# Altium schematic symbol library isa_svga.SchLib: 13 symbols
Pins are listed as number, name and electrical type; pins without a type are passive.

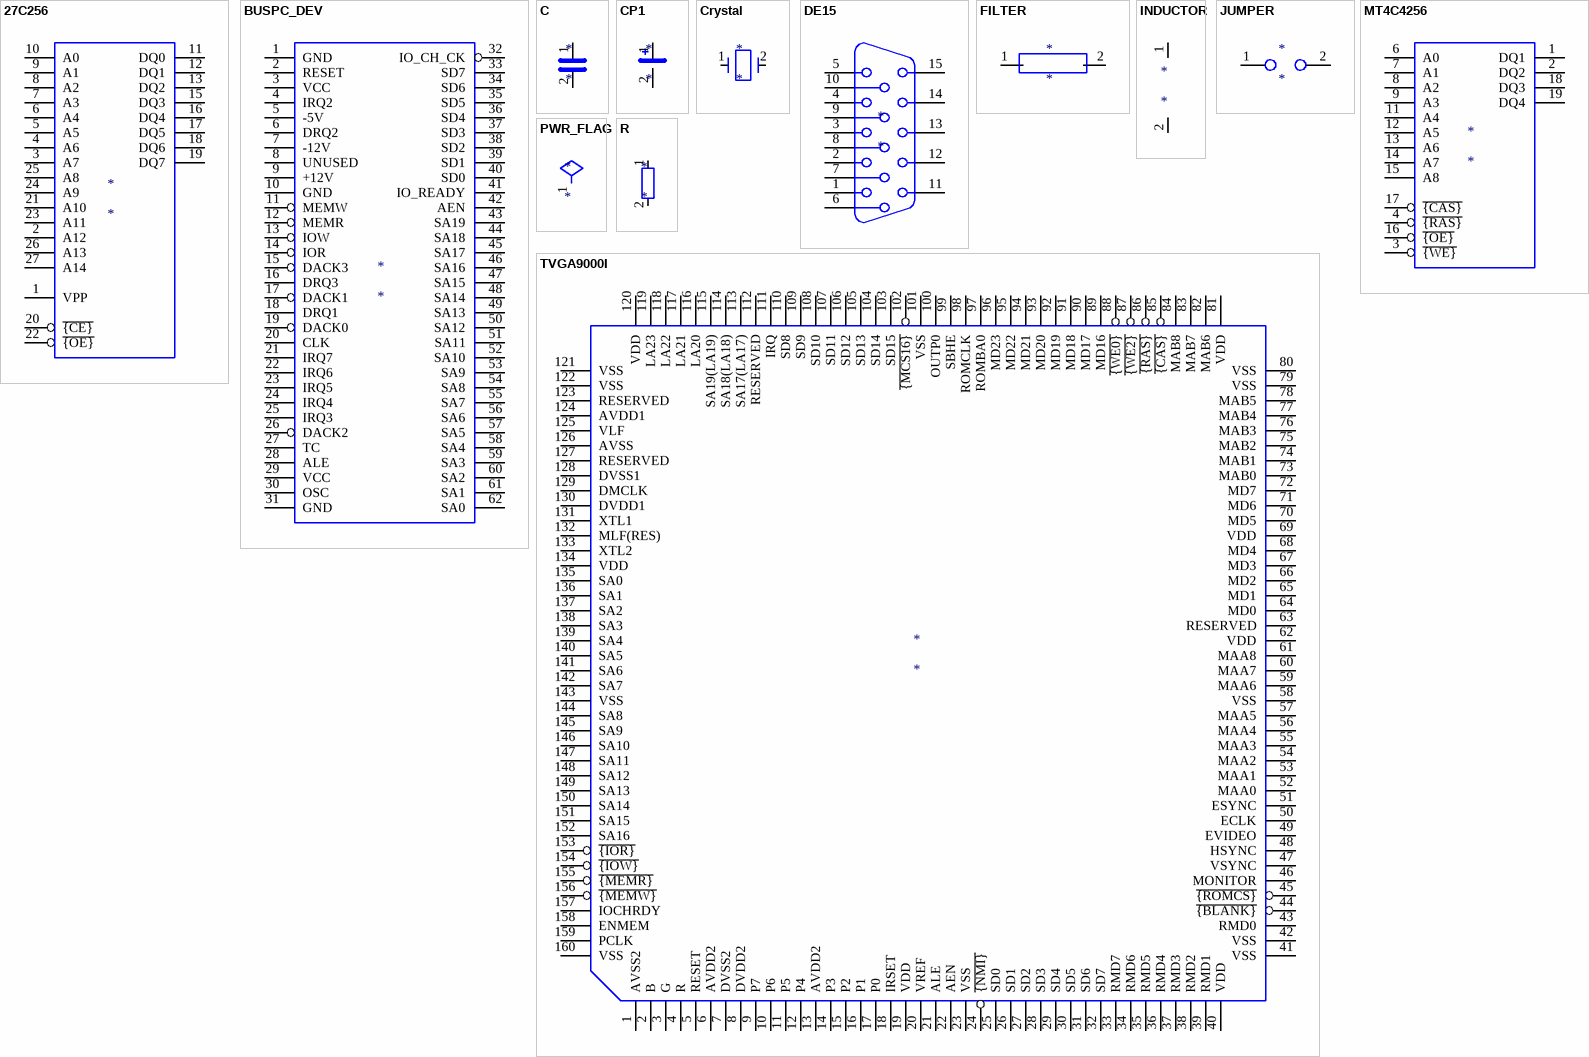
[diagram p0: symbols 27C256 to TVGA9000I]

## 27C256
designator *
pins: 1 VPP, 2 A12, 3 A7, 4 A6, 5 A5, 6 A4, 7 A3, 8 A2, 9 A1, 10 A0, 11 DQ0, 12 DQ1, 13 DQ2, 14 GND hidden, 15 DQ3, 16 DQ4, 17 DQ5, 18 DQ6, 19 DQ7, 20 ~{{CE}}, 21 A10, 22 ~{{OE}}, 23 A11, 24 A9, 25 A8, 26 A13, 27 A14, 28 VCC hidden

## BUSPC_DEV
designator *
pins: 1 GND, 2 RESET, 3 VCC, 4 IRQ2, 5 -5V, 6 DRQ2, 7 -12V, 8 UNUSED, 9 +12V, 10 GND, 11 MEMW, 12 MEMR, 13 IOW, 14 IOR, 15 DACK3, 16 DRQ3, 17 DACK1, 18 DRQ1, 19 DACK0, 20 CLK, 21 IRQ7, 22 IRQ6, 23 IRQ5, 24 IRQ4, 25 IRQ3, 26 DACK2, 27 TC, 28 ALE, 29 VCC, 30 OSC, 31 GND, 32 IO_CH_CK, 33 SD7, 34 SD6, 35 SD5, 36 SD4, 37 SD3, 38 SD2, 39 SD1, 40 SD0, 41 IO_READY, 42 AEN, 43 SA19, 44 SA18, 45 SA17, 46 SA16, 47 SA15, 48 SA14, 49 SA13, 50 SA12, 51 SA11, 52 SA10, 53 SA9, 54 SA8, 55 SA7, 56 SA6, 57 SA5, 58 SA4, 59 SA3, 60 SA2, 61 SA1, 62 SA0

## C
designator *
pins: 1, 2

## CP1
designator *
pins: 1, 2

## Crystal
designator *
pins: 1, 2

## DE15
designator *
pins: 1, 2, 3, 4, 5, 6 P6, 7 P7, 8 P8, 9 P9, 10, 11, 12, 13, 14, 15

## FILTER
designator *
pins: 1, 2

## INDUCTOR
designator *
pins: 1, 2

## JUMPER
designator *
pins: 1, 2

## MT4C4256
designator *
pins: 1 DQ1, 2 DQ2, 3 ~{{WE}}, 4 ~{{RAS}}, 5 NC hidden, 6 A0, 7 A1, 8 A2, 9 A3, 10 VCC hidden, 11 A4, 12 A5, 13 A6, 14 A7, 15 A8, 16 ~{{OE}}, 17 ~{{CAS}}, 18 DQ3, 19 DQ4, 20 GND hidden

## PWR_FLAG
designator *  (graphical)
pins: 1 pwr

## R
designator *
pins: 1, 2

## TVGA9000I
designator *
pins: 1 AVSS2, 2 B, 3 G, 4 R, 5 RESET, 6 AVDD2, 7 DVSS2, 8 DVDD2, 9 P7, 10 P6, 11 P5, 12 P4, 13 AVDD2, 14 P3, 15 P2, 16 P1, 17 P0, 18 IRSET, 19 VDD, 20 VREF, 21 ALE, 22 AEN, 23 VSS, 24 ~{{NMI}}, 25 SD0, 26 SD1, 27 SD2, 28 SD3, 29 SD4, 30 SD5, 31 SD6, 32 SD7, 33 RMD7, 34 RMD6, 35 RMD5, 36 RMD4, 37 RMD3, 38 RMD2, 39 RMD1, 40 VDD, 41 VSS, 42 VSS, 43 RMD0, 44 ~{{BLANK}}, 45 ~{{ROMCS}}, 46 MONITOR, 47 VSYNC, 48 HSYNC, 49 EVIDEO, 50 ECLK, 51 ESYNC, 52 MAA0, 53 MAA1, 54 MAA2, 55 MAA3, 56 MAA4, 57 MAA5, 58 VSS, 59 MAA6, 60 MAA7, 61 MAA8, 62 VDD, 63 RESERVED, 64 MD0, 65 MD1, 66 MD2, 67 MD3, 68 MD4, 69 VDD, 70 MD5, 71 MD6, 72 MD7, 73 MAB0, 74 MAB1, 75 MAB2, 76 MAB3, 77 MAB4, 78 MAB5, 79 VSS, 80 VSS, 81 VDD, 82 MAB6, 83 MAB7, 84 MAB8, 85 ~{{CAS}}, 86 ~{{RAS}}, 87 ~{{WE2}}, 88 ~{{WE0}}, 89 MD16, 90 MD17, 91 MD18, 92 MD19, 93 MD20, 94 MD21, 95 MD22, 96 MD23, 97 ROMBA0, 98 ROMCLK, 99 SBHE, 100 OUTP0, 101 VSS, 102 ~{{MCS16}}, 103 SD15, 104 SD14, 105 SD13, 106 SD12, 107 SD11, 108 SD10, 109 SD9, 110 SD8, 111 IRQ, 112 RESERVED, 113 SA17(LA17), 114 SA18(LA18), 115 SA19(LA19), 116 LA20, 117 LA21, 118 LA22, 119 LA23, 120 VDD, 121 VSS, 122 VSS, 123 RESERVED, 124 AVDD1, 125 VLF, 126 AVSS, 127 RESERVED, 128 DVSS1, 129 DMCLK, 130 DVDD1, 131 XTL1, 132 MLF(RES), 133 XTL2, 134 VDD, 135 SA0, 136 SA1, 137 SA2, 138 SA3, 139 SA4, 140 SA5, 141 SA6, 142 SA7, 143 VSS, 144 SA8, 145 SA9, 146 SA10, 147 SA11, 148 SA12, 149 SA13, 150 SA14, 151 SA15, 152 SA16, 153 ~{{IOR}}, 154 ~{{IOW}}, 155 ~{{MEMR}}, 156 ~{{MEMW}}, 157 IOCHRDY, 158 ENMEM, 159 PCLK, 160 VSS